# Altium footprint library Footprint-Lib-ABahlmann-SMD.PcbLib: 105 footprints (part 1 of 7)
Each footprint in its own frame and in the unit in brackets; x right, y up, seen from the top. Pads: shape width x height; smd on the part's side, far side on the other; paste and mask are expansions set on the pad; w line width, h text height; cw(c..) or ccw(c..) is an arc to the next point about the centre after c.
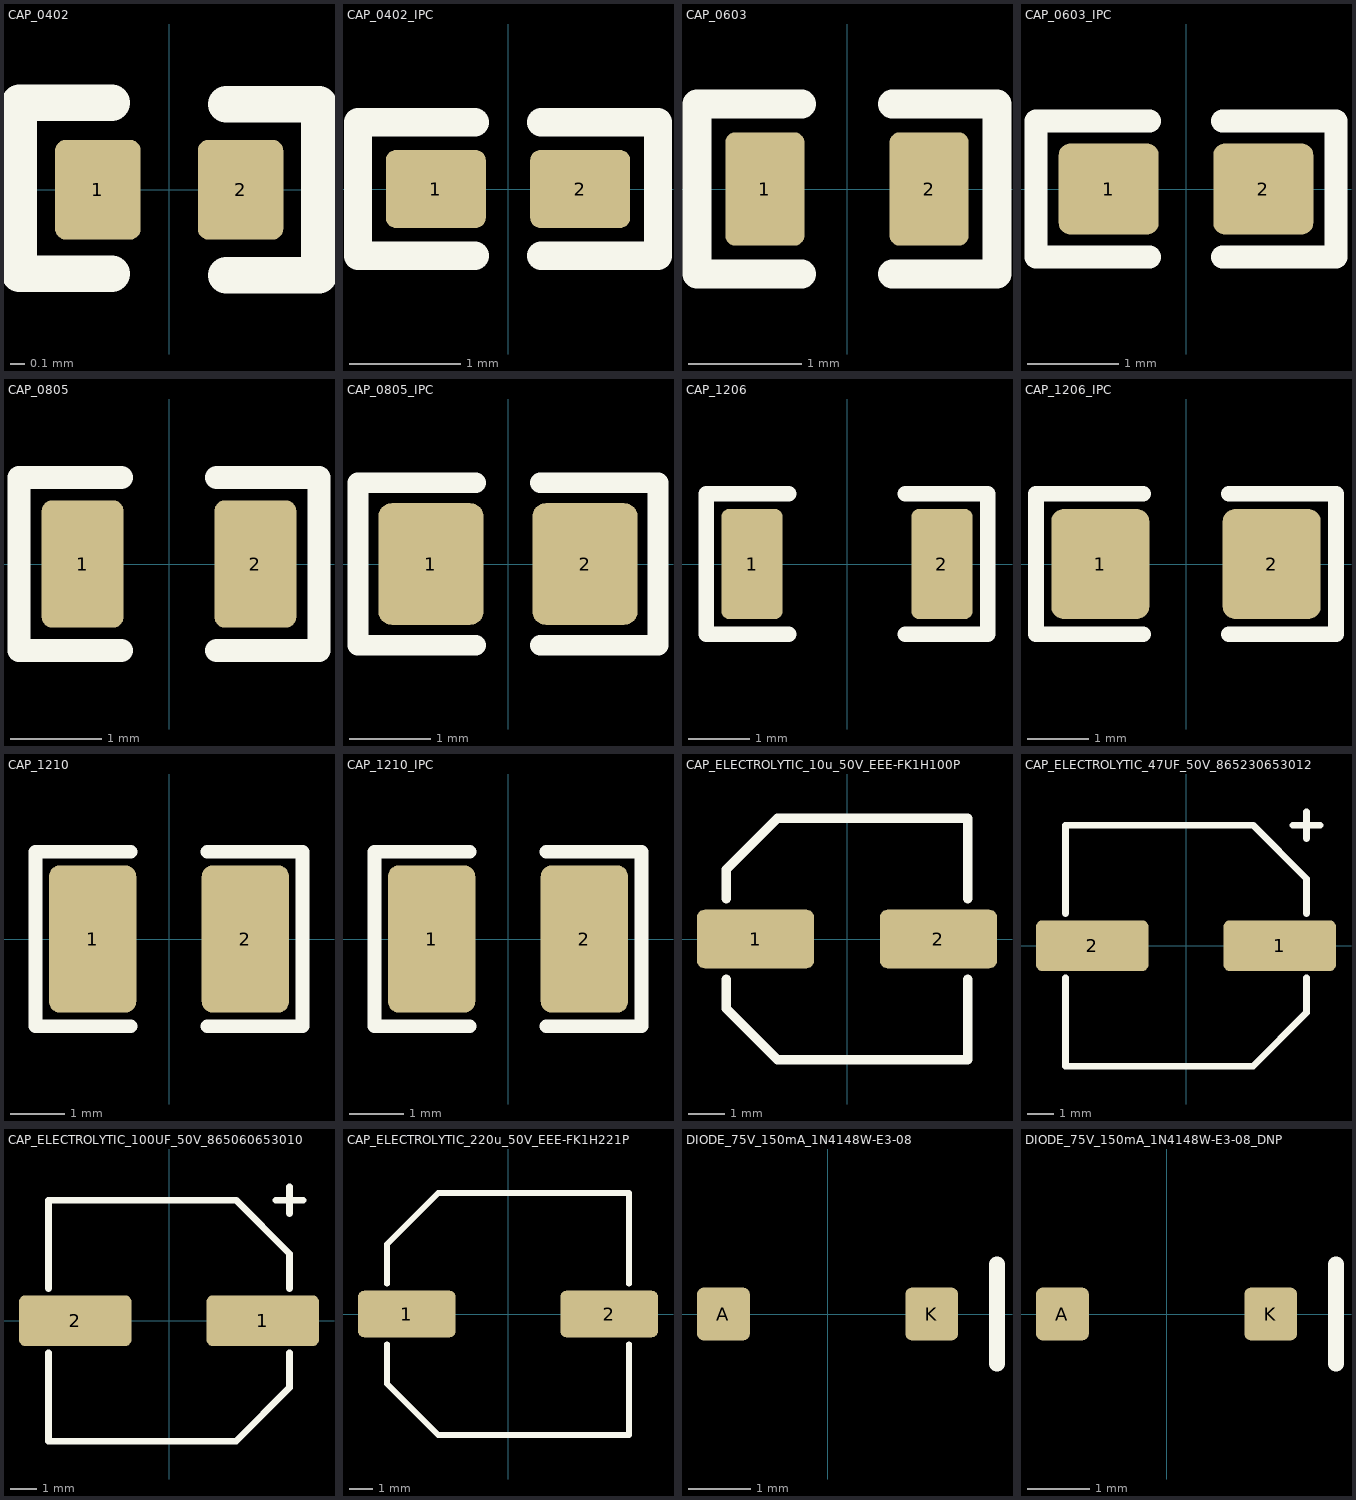
[diagram p0: the footprints below, top view; thin cyan lines are the x and y axes]

## CAP_0402 [mm]
pads (2):
  rrect25% 0.6x0.7 smd: 1(-0.5,0) 2(0.5,0)
Top Overlay:
  lines w0.254: -0.403,-0.59 -1.053,-0.59 -1.053,0.61 -0.403,0.61 ; 0.4,-0.6 1.05,-0.6 1.05,0.6 0.4,0.6
3D body "CAP_0402.step": height 0.51, standoff 0.01, extent -0.5,-0.25 0.5,0.25

## CAP_0402_IPC [mm]
pads (2):
  rrect25% 0.9x0.7 smd: 1(-0.65,0) 2(0.65,0)
Top Overlay:
  lines w0.254: -0.3,-0.6 -1.35,-0.6 -1.35,0.6 -0.3,0.6 ; 0.3,-0.6 1.35,-0.6 1.35,0.6 0.3,0.6
3D body "CAP_0402.step": height 0.51, standoff 0.01, extent -0.5,-0.25 0.5,0.25

## CAP_0603 [mm] "Link for footprints (Non-IPC): https://www.circuithub.com/post/recommended-footprints-for-discrete-components"
pads (2):
  rrect25% 0.7x1 smd: 1(-0.725,0) 2(0.725,0)
Top Overlay:
  lines w0.254: -0.4,-0.75 -1.325,-0.75 -1.325,0.75 -0.4,0.75 ; 0.4,-0.75 1.325,-0.75 1.325,0.75 0.4,0.75
3D body "CAP_0603.step": height 0.81, standoff 0.01, extent -0.8,-0.4 0.8,0.4

## CAP_0603_IPC [mm]
pads (2):
  rrect25% 1.1x1 smd: 1(-0.85,0) 2(0.85,0)
Top Overlay:
  lines w0.254: -0.4,-0.75 -1.65,-0.75 -1.65,0.75 -0.4,0.75 ; 0.4,-0.75 1.65,-0.75 1.65,0.75 0.4,0.75
3D body "CAP_0603.step": height 0.81, standoff 0.01, extent -0.8,-0.4 0.8,0.4

## CAP_0805 [mm] "Link for footprints (Non-IPC): https://www.circuithub.com/post/recommended-footprints-for-discrete-components"
pads (2):
  rrect25% 0.9x1.4 smd: 1(-0.95,0) 2(0.95,0)
Top Overlay:
  lines w0.254: -0.525,-0.95 -1.65,-0.95 -1.65,0.95 -0.525,0.95 ; 0.525,-0.95 1.65,-0.95 1.65,0.95 0.525,0.95
3D body "CAP_0805.step": height 0.61, standoff 0.01, extent -1,-0.625 1,0.625

## CAP_0805_IPC [mm]
pads (2):
  rrect25% 1.3x1.5 smd: 1(-0.95,0) 2(0.95,0)
Top Overlay:
  lines w0.254: -0.4,-1 -1.85,-1 -1.85,1 -0.4,1 ; 0.4,-1 1.85,-1 1.85,1 0.4,1
3D body "CAP_0805.step": height 0.61, standoff 0.01, extent -1,-0.625 1,0.625

## CAP_1206 [mm]
pads (2):
  rrect25% 1x1.8 smd: 1(-1.55,0) 2(1.55,0)
Top Overlay:
  lines w0.254: -0.95,-1.15 -2.3,-1.15 -2.3,1.15 -0.95,1.15 ; 0.95,-1.15 2.3,-1.15 2.3,1.15 0.95,1.15
3D body "CAP_1206.step": height 0.79, standoff 0.01, extent -1.6,-0.8 1.6,0.8

## CAP_1206_IPC [mm]
pads (2):
  rrect25% 1.6x1.8 smd: 1(-1.4,0) 2(1.4,0)
Top Overlay:
  lines w0.254: -0.7,-1.15 -2.45,-1.15 -2.45,1.15 -0.7,1.15 ; 0.7,-1.15 2.45,-1.15 2.45,1.15 0.7,1.15
3D body "CAP_1206.step": height 0.79, standoff 0.01, extent -1.6,-0.8 1.6,0.8

## CAP_1210 [mm]
pads (2):
  rrect25% 1.6x2.7 smd: 1(-1.4,0) 2(1.4,0)
Top Overlay:
  lines w0.254: -0.7,-1.6 -2.45,-1.6 -2.45,1.6 -0.7,1.6 ; 0.7,-1.6 2.45,-1.6 2.45,1.6 0.7,1.6
3D body "CAP_1210.step": height 0.79, standoff 0.01, extent -1.6,-1.25 1.6,1.25

## CAP_1210_IPC [mm]
pads (2):
  rrect25% 1.6x2.7 smd: 1(-1.4,0) 2(1.4,0)
Top Overlay:
  lines w0.254: -0.7,-1.6 -2.45,-1.6 -2.45,1.6 -0.7,1.6 ; 0.7,-1.6 2.45,-1.6 2.45,1.6 0.7,1.6
3D body "CAP_1210.step": height 0.79, standoff 0.01, extent -1.6,-1.25 1.6,1.25

## CAP_ELECTROLYTIC_10u_50V_EEE-FK1H100P [mm] "10 µF 50 V Aluminum Electrolytic Capacitors Radial, Can - SMD 2000 Hrs @ 105°C"
pads (2):
  rrect25% 3.2x1.6 smd mask+0.1: 1(-2.5,0) 2(2.5,0)
Top Overlay:
  lines w0.254: -3.3,-1.1 -3.3,-1.9 -1.9,-3.3 3.3,-3.3 3.3,-1.1 ; -3.3,1.1 -3.3,1.9 -1.9,3.3 3.3,3.3 3.3,1.1
3D body "EEE-FK1H100P.STEP": height 5.81, standoff 0.01, extent -3.65,-3.3 3.65,3.3

## CAP_ELECTROLYTIC_47UF_50V_865230653012 [mm] "47 µF 50 V Aluminum Electrolytic Capacitors Radial, Can - SMD 5000 Hrs @ 105°C"
pads (2):
  rrect25% 4.2x1.9 smd mask+0.1: 1(3.5,0) 2(-3.5,0)
Top Overlay:
  lines w0.254: -4.5,-1.2 -4.5,-4.5 2.5,-4.5 4.5,-2.5 4.5,-1.2 ; -4.5,1.2 -4.5,4.5 2.5,4.5 4.5,2.5 4.5,1.2 ; 4,4.5 5,4.5 ; 4.5,4 4.5,5
3D body "Download_STP_865060x530xx+(rev1).stp": height 10.51, standoff 0.01, extent -4.5,-4.15 4.5,4.15

## CAP_ELECTROLYTIC_100UF_50V_865060653010 [mm] "100 µF 50 V Aluminum Electrolytic Capacitors Radial, Can - SMD 5000 Hrs @ 105°C"
pads (2):
  rrect25% 4.2x1.9 smd mask+0.1: 1(3.5,0) 2(-3.5,0)
Top Overlay:
  lines w0.254: -4.5,-1.2 -4.5,-4.5 2.5,-4.5 4.5,-2.5 4.5,-1.2 ; -4.5,1.2 -4.5,4.5 2.5,4.5 4.5,2.5 4.5,1.2 ; 4,4.5 5,4.5 ; 4.5,4 4.5,5
3D body "Download_STP_865060x530xx+(rev1).stp": height 10.51, standoff 0.01, extent -4.5,-4.15 4.5,4.15

## CAP_ELECTROLYTIC_220u_50V_EEE-FK1H221P [mm] "220 µF 50 V Aluminum Electrolytic Capacitors Radial, Can - SMD 2000 Hrs @ 105°C"
pads (2):
  rrect25% 4.2x2 smd mask+0.1: 1(-4.35,0) 2(4.35,0)
Top Overlay:
  lines w0.254: -5.2,-1.3 -5.2,-3 -3,-5.2 5.2,-5.2 5.2,-1.3 ; -5.2,1.3 -5.2,3 -3,5.2 5.2,5.2 5.2,1.3
3D body "EEE-FK1H221P.stp": height 10.21, standoff 0.01, extent -5.85,-5.15 5.85,5.15

## DIODE_75V_150mA_1N4148W-E3-08 [mm] "Diode 75 V 150mA Surface Mount SOD-123"
pads (2):
  rrect25% 0.85x0.85 smd: A(-1.675,0) K(1.675,0)
Top Overlay:
  lines w0.254: 2.725,-0.8 2.725,0.8
3D body "1N4148W-E3-08.STEP": height 1.44, standoff -0.01, extent -1.825,-0.775 1.825,0.775

## DIODE_75V_150mA_1N4148W-E3-08_DNP [mm] "Diode 75 V 150mA Surface Mount SOD-123"
pads (2):
  rrect25% 0.85x0.85 smd: A(-1.675,0) K(1.675,0)
Top Overlay:
  lines w0.254: 2.725,-0.8 2.725,0.8